# Altium schematic symbol library TSU112.SchLib: 1 symbol
Pins are listed as number, name and electrical type; pins without a type are passive.

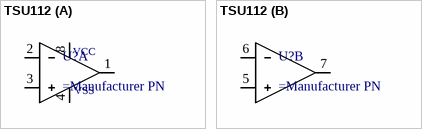
[diagram p0: symbol TSU112]

## TSU112
designator U?
part A pins: 1, 2, 3, 4, 8
part B pins: 5, 6, 7
part A text: VCC; VSS